# Altium schematic symbol library Transistor.SchLib: 10 symbols
Pins are listed as number, name and electrical type; pins without a type are passive.

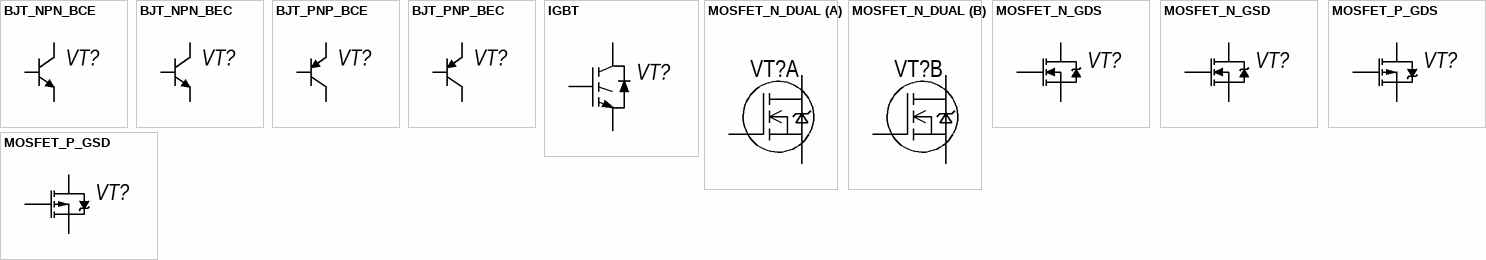
[diagram p0: symbols BJT_NPN_BCE to MOSFET_P_GSD]

## BJT_NPN_BCE
designator VT?
pins: 1 B, 2 C, 3 E

## BJT_NPN_BEC
designator VT?
pins: 1 B, 2 E, 3 C

## BJT_PNP_BCE
designator VT?
pins: 1 B, 2 C, 3 E

## BJT_PNP_BEC
designator VT?
pins: 1 B, 2 E, 3 C

## IGBT
designator VT?
pins: 1 G, 2 C, 3 E

## MOSFET_N_DUAL
designator VT?
Транзистор полевой N-канальный c диодом
footprint 8-SOIC (pitch 1.27 mm)
part A pins: 1 Исток(Source), 2 Затвор(Gate), 7 Сток(Drain), 8 Сток(Drain)
part B pins: 3 Исток(Source), 4 Затвор(Gate), 5 Сток(Drain), 6 Сток(Drain)
1 alternate drawing of the same symbol

## MOSFET_N_GDS
designator VT?
pins: 1 G, 2 D, 3 S

## MOSFET_N_GSD
designator VT?
pins: 1 G, 2 S, 3 D

## MOSFET_P_GDS
designator VT?
pins: 1 G, 2 D, 3 S

## MOSFET_P_GSD
designator VT?
pins: 1 G, 2 S, 3 D